# Altium schematic symbol library User2.SchLib: 4 symbols
Pins are listed as number, name and electrical type; pins without a type are passive.

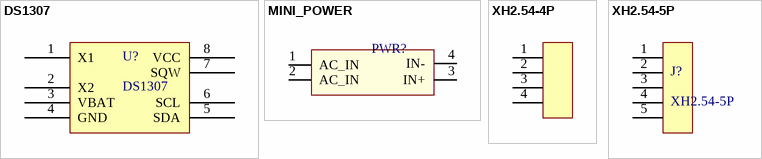
[diagram p0: symbols DS1307 to XH2.54-5P]

## DS1307
designator U?
footprint DS1307
pins: 1 X1, 2 X2, 3 VBAT, 4 GND, 5 SDA, 6 SCL, 7 SQW, 8 VCC

## MINI_POWER
designator PWR?  (value not drawn)
footprint MINI_POWER
pins: 1 AC_IN, 2 AC_IN, 3 IN+, 4 IN-

## XH2.54-4P
designator ?  (value not drawn)
footprint XH2.54-4P
pins: 1, 2, 3, 4

## XH2.54-5P
designator J?
footprint XH2.54-5P
pins: 1, 2, 3, 4, 5